# Altium schematic symbol library 1571983-4.SchLib: 1 symbol
Pins are listed as number, name and electrical type; pins without a type are passive.

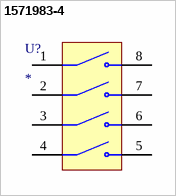
[diagram p0: symbol 1571983-4]

## 1571983-4
designator U?
Value: *
pins: 1, 2, 3, 4, 5, 6, 7, 8